# Altium footprint library aiskylab-09CirProtect.PcbLib: 20 footprints (part 2 of 2)
Each footprint in its own frame and in the unit in brackets; x right, y up, seen from the top. Pads: shape width x height; smd on the part's side, far side on the other; paste and mask are expansions set on the pad; w line width, h text height; cw(c..) or ccw(c..) is an arc to the next point about the centre after c.
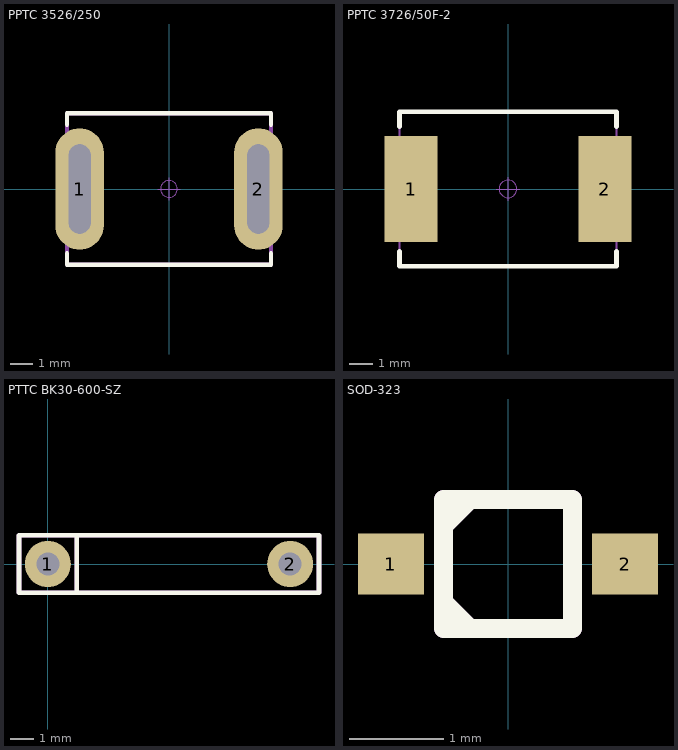
[diagram p1: the footprints below, top view; thin cyan lines are the x and y axes]

## PPTC 3526/250 [mm]
height 5.46
pads (2):
  oval 2.2x5.5 hole 1 slot 4.05 at 90 deg mask+0.07: 1(-4.05,0)
  oval 2.2x5.5 hole 1 slot 4.05 at 90 deg: 2(4.05,0)
Top Overlay:
  lines w0.2: -4.623,-2.921 -4.623,-3.429 4.623,-3.429 4.623,-2.921 ; -4.623,2.921 -4.623,3.429 4.623,3.429 4.623,2.921
Top Designator:
  text ".Designator" at -7.618,-0.508 h1.52
Top Component Center:
  circle w0.001: c0,0.004 r0.381
  lines w0.025: -0.508,0 0.508,0 ; 0,-0.5 0,0.508
Top 3D Body:
  lines w0.178: -4.623,-3.429 -4.623,3.429 4.623,3.429 4.623,-3.429 -4.623,-3.429
3D body "pad5_5-2_2_0_8.stp": height 0, standoff -2.2, extent -5.169,-2.757 -2.969,2.743
3D body "pad5_5-2_2_0_8.stp": height 0, standoff -2.2, extent 2.985,-2.763 5.184,2.737
3D body "f-250.stp": height 1.7, standoff -1.3, extent -4.45,-3.25 4.45,3.25

## PPTC 3726/50F-2 [mm] "PolySwitch, 2-Leads, Body 8.7x6.35mm Nominal"
height 3
pads (2):
  rect 2.3x4.6 smd: 1(-4.2,0) 2(4.2,0)
Top Overlay:
  lines w0.2: -4.7,-2.7 -4.7,-3.355 4.7,-3.355 4.7,-2.7 ; -4.7,2.7 -4.7,3.355 4.7,3.355 4.7,2.7
Top Designator:
  text ".Designator" at -7.618,-0.508 h1.52
Top Component Center:
  circle w0.001: c0,0.004 r0.381
  lines w0.025: -0.508,0 0.508,0 ; 0,-0.5 0,0.508
Top 3D Body:
  lines w0.1: -4.7,-3.355 4.7,-3.355 4.7,3.355 -4.7,3.355 -4.7,-3.355
3D body "FUSR_TYCO_SMDC150F-2.stp": height 3, standoff 0, extent -4.7,-3.355 4.7,3.355
3D body "p460-150.stp": height 0.02, standoff 0, extent 3.95,-2.3 5.45,2.3
3D body "p460-150.stp": height 0.02, standoff 0, extent -5.45,-2.3 -3.95,2.3

## PTTC BK30-600-SZ [mm]
pads (2):
  round 2 hole 1: 1(0,0) 2(10.5,0)
Top Overlay:
  lines w0.2: 1.25,-1.25 1.25,1.25 ; -1.25,-1.25 -1.25,1.25 11.75,1.25 11.75,-1.25 -1.25,-1.25
Top Designator:
  text ".Designator" at -2.368,-0.508 h1.52
Top Assembly:
  lines w0.2: 1.25,-1.25 1.25,1.25 ; -1.25,-1.25 -1.25,1.25 11.75,1.25 11.75,-1.25 -1.25,-1.25
Top Component Outline:
  lines w0.2: 1.25,-1.25 1.25,1.25 ; -1.25,-1.25 -1.25,1.25 11.75,1.25 11.75,-1.25 -1.25,-1.25
3D body "v200-100.stp": height 0.02, standoff -1.65, extent 9.5,-1 11.5,1
3D body "v200-100.stp": height 0.02, standoff -1.65, extent -1,-1 1,1
3D body: height 24.9, standoff 7.6, extent -1.25,-1.25 11.75,1.25
3D body: height 7.6, standoff -1, extent -0.397,-0.399 0.4,0.399
3D body: height 7.6, standoff -1, extent 10.103,-0.399 10.9,0.399

## SOD-323 [mm]
height 1.35
pads (2):
  rect 0.7x0.65 smd: 1(-1.245,0) 2(1.245,0)
Top Overlay:
  lines w0.203: -0.686,-0.406 -0.406,-0.686 ; -0.686,0.406 -0.406,0.686 ; -0.686,-0.686 -0.686,0.686 0.686,0.686 0.686,-0.686 -0.686,-0.686
Top Designator:
  text ".Designator" at -7.618,-0.508 h1.52
Top Assembly:
  lines w0.203: -0.686,-0.406 -0.406,-0.686 ; -0.686,0.406 -0.406,0.686 ; -0.686,-0.686 -0.686,0.686 0.686,0.686 0.686,-0.686 -0.686,-0.686
Top Component Center:
  lines w0.203: -0.686,-0.406 -0.406,-0.686 ; -0.686,0.406 -0.406,0.686 ; -0.686,-0.686 0.686,-0.686 0.686,0.686 -0.686,0.686 -0.686,-0.686
3D body "sod-323.stp": height 1.11, standoff -0.07, extent -1.375,-0.675 1.375,0.675
3D body "0_65-0_4.stp": height 0.01, standoff 0, extent -1.575,-0.325 -1.175,0.325
3D body "0_65-0_4.stp": height 0.01, standoff 0, extent 1.175,-0.325 1.575,0.325